# Altium footprint library Panasonic_18N.PcbLib: 1 footprints
Each footprint in its own frame and in the unit in brackets; x right, y up, seen from the top. Pads: shape width x height; smd on the part's side, far side on the other; paste and mask are expansions set on the pad; w line width, h text height; cw(c..) or ccw(c..) is an arc to the next point about the centre after c.
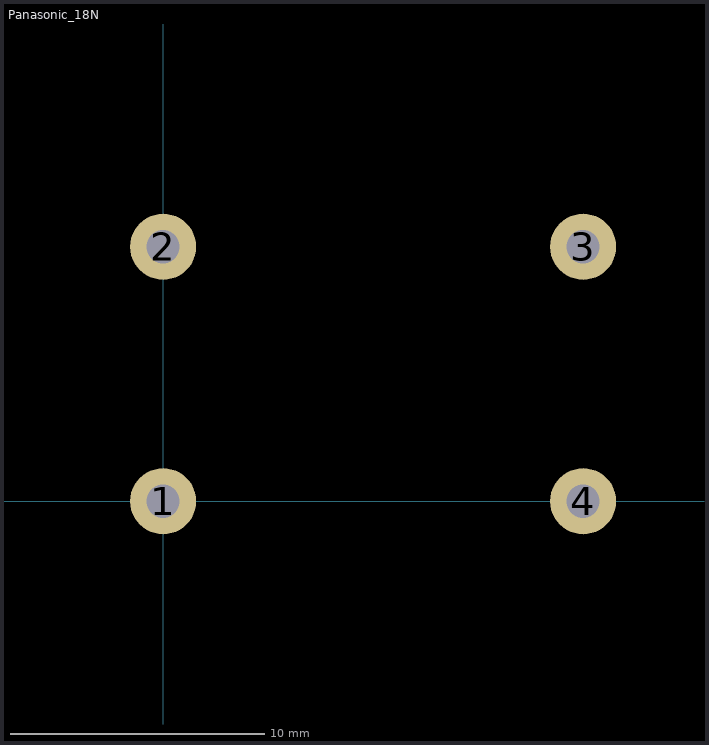
[diagram p0: the footprint, top view; thin cyan lines are the x and y axes]

## Panasonic_18N [mm] "Panasonic 18N Filter Choke"
height 26.5
pads (4):
  round 2.6 hole 1.3: 1(0,0) 2(0,10) 3(16.5,10) 4(16.5,0)
Bottom Overlay:
  lines w0.254: -5,-5 -5,15 20,15 20,-5 -5,-5